# Altium footprint library baseboard.PcbLib: 17 footprints (part 2 of 2)
Each footprint in its own frame and in the unit in brackets; x right, y up, seen from the top. Pads: shape width x height; smd on the part's side, far side on the other; paste and mask are expansions set on the pad; w line width, h text height; cw(c..) or ccw(c..) is an arc to the next point about the centre after c.
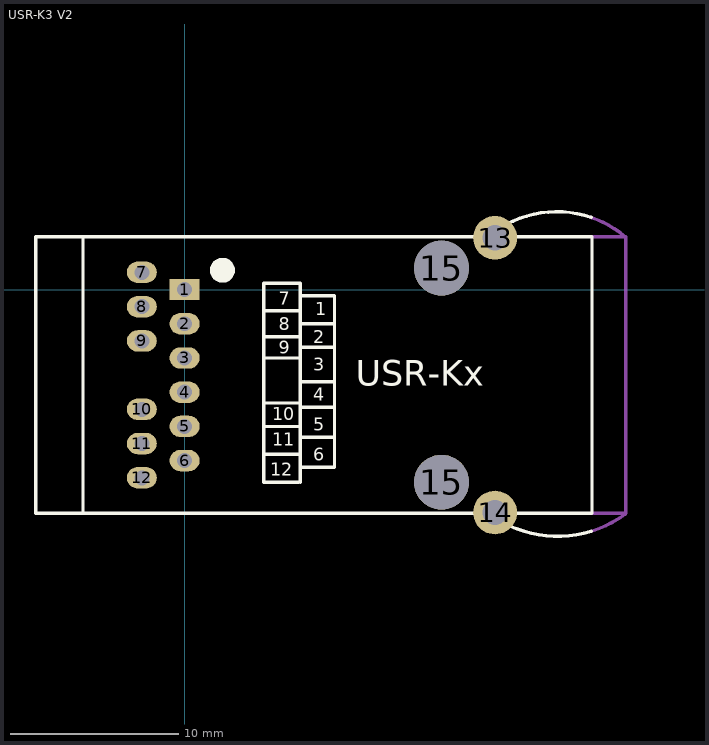
[diagram p1: the footprint, top view; thin cyan lines are the x and y axes]

## USR-K3 V2 [mil]
pads (16):
  rect 70x50 hole 35 mask+2: 1(0,0)
  oval 70x50 hole 35 mask+2: 2(0,-79.92) 3(0,-159.84) 4(0,-239.76) 5(0,-319.69) 6(0,-399.61) 7(-100,40.16) 8(-100,-40.16) 9(-100,-120.08) 10(-100,-279.92) 11(-100,-359.84) 12(-100,-439.76)
  round 102.36 hole 59.06 mask+2: 13(725.18,120.85) 14(725.18,-520.88)
  round 127.95 hole 127.95 unplated: 15(599.98,-450.02) 15(599.98,49.98)
Top Overlay:
  circle w30: c88.46,45 r14.14
  lines w7.99: -237.42,-522.85 -237.42,122.82 ; 185,-385 265,-385 ; 185,-320 270,-320 ; 185,-265 265,-265 ; 185,-160 270,-160 ; 185,-110 265,-110 ; 185,-50 265,-50 ; 265,-450 185,-450 185,15 270,15 270,-450 ; 270,-415 350,-415 350,-15 270,-15 ; 270.01,-345 345.01,-345 ; 270,-275 350,-275 ; 270,-215 350,-215 ; 270,-135 345,-135 ; 270,-80 345,-80 ; 714.1,-525.56 ccw(c871.17,-308.76) 949.87,-564.65 ; 723.24,134.16 cw(c869.46,-66.2) 949.81,168.46 ; 951.56,-522.85 951.56,122.82
  lines w8: 951.56,-522.85 -347.65,-522.85 -347.65,122.82 951.56,122.82
  text "USR-Kx" at 400,-225 h60
  text "6" at 300,-400 h30
  text "12" at 200,-435 h30
  text "11" at 205,-365 h30
  text "10" at 205,-305 h30
  text "9" at 220,-150 h30
  text "8" at 220,-95 h30
  text "7" at 220,-35 h30
  text "5" at 300,-330 h30
  text "4" at 300,-260 h30
  text "3" at 300,-190 h30
  text "2" at 300,-125 h30
  text "1" at 305,-60 h30
Mechanical 13:
  lines w7.99: 947.7,169.11 cw(c869.77,-66.36) 1029.98,122.98 ; 951.56,-522.85 1030.3,-522.85 ; 951.56,122.82 1030.3,122.82 ; 951.98,-563.99 ccw(c871.17,-308.76) 1028.98,-525.02
  lines w8: 1030.32,-522.85 1030.3,122.82
  text "2mm" at 975,-150 h30